# EAGLE library part LTC6992 (library SonicVisualizer)
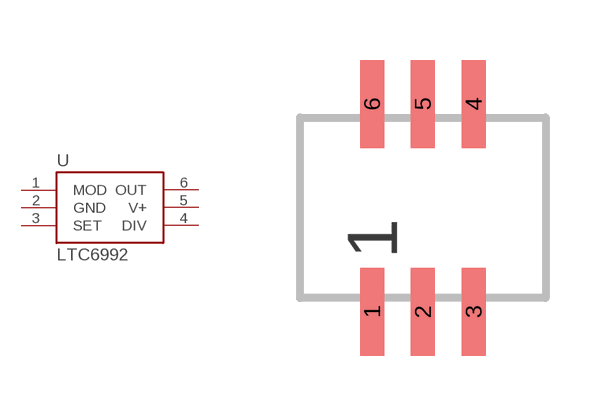
[diagram p1: symbol with the pads of SOP06; footprint SOP06]

Designator prefix U

## LTC6992  [SOP06]
1  MOD  in
2  GND  pwr
3  SET  in
4  DIV  in
5  V+  pwr
6  OUT  out

## Footprint SOP06 (pad centres in mm)
SMALL OUTLINE PACKAGE
smd 0.6 x 2.2: 1 -1.27,-2.6; 2 0,-2.6; 3 1.27,-2.6; 4 1.27,2.6; 5 0,2.6; 6 -1.27,2.6